# Altium integrated library Pedals SMD.IntLib: 124 symbols (part 5 of 7)
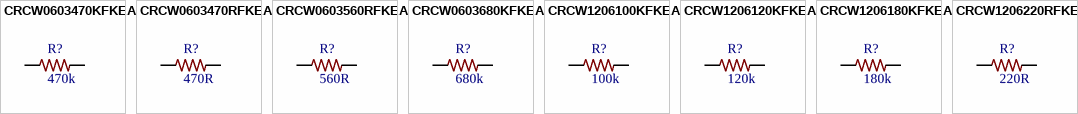
[diagram p15: symbols CRCW0603470KFKEA to CRCW1206220RFKEA]

## CRCW1206120KFKEA
designator R?, comment 120k
RES SMD 120K OHM 1% 1/4W 1206; Manufacturer: Vishay; Manufacturer Part Number: CRCW1206120KFKEA; Resistance: 120kR; Power Rating: 250mW; Temperature Coefficient: 100ppm/°C; Voltage Rating: 200V; Supplier 1: Farnell; Supplier Part Number 1: 2139596; Stock: 30156; Pricing: 10=0.0415, 100=0.0276, 500=0.0231, 1000=0.0126, 2500=0.0116 (EUR); RoHS: Yes; Case/Package: 1206; Weight: 0.000353oz; Contact Plating: Tin; Case Code (Imperial): 1206; Case Code (Metric): 3216; Min Operating Temperature: -55°C; Max Operating Temperature: 155°C; Tolerance: 1%; Composition: Thick Film; Packaging: Tape and Reel; Military Standard: Not; Package Quantity: 10; Number of Terminations: 2; Termination: SMD/SMT; Max Power Dissipation: 250mW; Voltage Rating (DC): 200V; Features: Automotive AEC-Q200; Length: 3.2mm; Height: 0.55mm; Depth: 1.6mm; Width: 1.6mm; Radiation Hardening: No; Lead Free: Lead Free; REACH SVHC: Unknown; ComponentLink1URL: https://datasheet.ciiva.com/11808/0900766b80d98b5e-11808652.pdf?src-supplier=RSComponents; ComponentLink1Description: https://datasheet.ciiva.com/11808/0900766b80d98b5e-11808652.pdf?src-supplier=RSComponents; ComponentLink2URL: https://datasheet.ciiva.com/7714/1697337-7714312.pdf?src-supplier=Element14; ComponentLink2Description: https://datasheet.ciiva.com/7714/1697337-7714312.pdf?src-supplier=Element14; ComponentLink3URL: https://datasheet.ciiva.com/7714/1697337-7714313.pdf?src-supplier=Element14; ComponentLink3Description: https://datasheet.ciiva.com/7714/1697337-7714313.pdf?src-supplier=Element14; ComponentLink4URL: https://datasheet.ciiva.com/22708/1697337-22708105.pdf?src-supplier=Element14; ComponentLink4Description: https://datasheet.ciiva.com/22708/1697337-22708105.pdf?src-supplier=Element14; ComponentLink5URL: https://datasheet.ciiva.com/22675/1847332-22675915.pdf?src-supplier=Element14; ComponentLink5Description: https://datasheet.ciiva.com/22675/1847332-22675915.pdf?src-supplier=Element14; ComponentLink6URL: https://datasheet.ciiva.com/2469/dcrcwe3-2469512.pdf?src-supplier=Digi-Key; ComponentLink6Description: https://datasheet.ciiva.com/2469/dcrcwe3-2469512.pdf?src-supplier=Digi-Key; ComponentLink7URL: https://datasheet.ciiva.com/2469/dcrcwe3-2469510.pdf?src-supplier=Digi-Key; ComponentLink7Description: https://datasheet.ciiva.com/2469/dcrcwe3-2469510.pdf?src-supplier=Digi-Key; ComponentLink8URL: https://datasheet.ciiva.com/2469/dcrcwe3-2469511.pdf?src-supplier=Digi-Key; ComponentLink8Description: https://datasheet.ciiva.com/2469/dcrcwe3-2469511.pdf?src-supplier=Digi-Key; ComponentLink9URL: https://datasheet.ciiva.com/26316/fld-crcw-e3-data-en-26316475.pdf?src-supplier=Distrelec; ComponentLink9Description: https://datasheet.ciiva.com/26316/fld-crcw-e3-data-en-26316475.pdf?src-supplier=Distrelec; ComponentLink10URL: https://datasheet.ciiva.com/7800/125364-7800558.pdf?src-supplier=Element14; ComponentLink10Description: https://datasheet.ciiva.com/7800/125364-7800558.pdf?src-supplier=Element14; Price: 0.028
footprint CHIP_R_1206 (Chip Resistor 2-Leads, Body 3.20x1.60mm, IPC Medium Density)
pins: 1, 2

## CRCW1206180KFKEA
designator R?, comment 180k
RES SMD 180K OHM 1% 1/4W 1206; Manufacturer: Vishay; Manufacturer Part Number: CRCW1206180KFKEA; Resistance: 180kR; Temperature Coefficient: 100ppm/°C; Power Rating: 250mW; Voltage Rating: 200V; Supplier 1: Farnell; Supplier Part Number 1: 2139611; Stock: 15809; Pricing: 10=0.0415, 100=0.0276, 500=0.0231, 1000=0.0135, 2500=0.0116 (EUR); RoHS: Yes; Mount: Surface Mount; Case/Package: 1206; Number of Pins: 2; Weight: 0.000353oz; Contact Plating: Tin; Case Code (Imperial): 1206; Case Code (Metric): 3216; Min Operating Temperature: -55°C; Max Operating Temperature: 155°C; Composition: Thick Film; Tolerance: 1%; Packaging: Tape and Reel; Package Quantity: 10; Termination: SMD/SMT; Number of Terminations: 2; Military Standard: Not; Max Power Dissipation: 250mW; Voltage Rating (DC): 200V; Working Voltage: 200V; Features: Automotive AEC-Q200; Length: 3.2mm; Height: 0.55mm; Width: 1.6mm; Depth: 1.6mm; Radiation Hardening: No; Lead Free: Lead Free; REACH SVHC: Unknown; ComponentLink1URL: https://datasheet.ciiva.com/11811/0900766b80d98b5e-11811640.pdf?src-supplier=RSComponents; ComponentLink1Description: https://datasheet.ciiva.com/11811/0900766b80d98b5e-11811640.pdf?src-supplier=RSComponents; ComponentLink2URL: https://datasheet.ciiva.com/2515/dcrcwe3-2515718.pdf?src-supplier=Digi-Key; ComponentLink2Description: https://datasheet.ciiva.com/2515/dcrcwe3-2515718.pdf?src-supplier=Digi-Key; ComponentLink3URL: https://datasheet.ciiva.com/2515/dcrcwe3-2515719.pdf?src-supplier=Digi-Key; ComponentLink3Description: https://datasheet.ciiva.com/2515/dcrcwe3-2515719.pdf?src-supplier=Digi-Key; ComponentLink4URL: https://datasheet.ciiva.com/2515/dcrcwe3-2515720.pdf?src-supplier=Digi-Key; ComponentLink4Description: https://datasheet.ciiva.com/2515/dcrcwe3-2515720.pdf?src-supplier=Digi-Key; ComponentLink5URL: https://datasheet.ciiva.com/7714/1697337-7714344.pdf?src-supplier=Element14; ComponentLink5Description: https://datasheet.ciiva.com/7714/1697337-7714344.pdf?src-supplier=Element14; ComponentLink6URL: https://datasheet.ciiva.com/26316/fld-crcw-e3-data-en-26316477.pdf?src-supplier=Distrelec; ComponentLink6Description: https://datasheet.ciiva.com/26316/fld-crcw-e3-data-en-26316477.pdf?src-supplier=Distrelec; ComponentLink7URL: https://datasheet.ciiva.com/8964/dcrcwe3-8964238.pdf?src-supplier=Avnet; ComponentLink7Description: https://datasheet.ciiva.com/8964/dcrcwe3-8964238.pdf?src-supplier=Avnet; ComponentLink8URL: https://datasheet.ciiva.com/7714/1697337-7714345.pdf?src-supplier=Element14; ComponentLink8Description: https://datasheet.ciiva.com/7714/1697337-7714345.pdf?src-supplier=Element14; ComponentLink9URL: https://datasheet.ciiva.com/22708/1697337-22708109.pdf?src-supplier=Element14; ComponentLink9Description: https://datasheet.ciiva.com/22708/1697337-22708109.pdf?src-supplier=Element14; Price: 0.0283
footprint CHIP_R_1206 (Chip Resistor 2-Leads, Body 3.20x1.60mm, IPC Medium Density)
pins: 1, 2

## CRCW1206220RFKEA
designator R?, comment 220R
RES SMD 220 OHM 1% 1/4W 1206; Manufacturer: Vishay; Manufacturer Part Number: CRCW1206220RFKEA; Temperature Coefficient: 100ppm/°C; Power Rating: 250mW; Voltage Rating: 200V; Supplier 1: Farnell; Supplier Part Number 1: 2139380; Stock: 47111; Pricing: 10=0.0415, 100=0.0276, 500=0.0231, 1000=0.0135, 2500=0.0116 (EUR); RoHS: Yes; Mount: Surface Mount; Case/Package: 1206; Weight: 0.000353oz; Contact Plating: Tin; Case Code (Imperial): 1206; Case Code (Metric): 3216; Min Operating Temperature: -55°C; Max Operating Temperature: 155°C; Tolerance: 1%; Resistance: 220R; Composition: Thick Film; Packaging: Tape and Reel; Package Quantity: 10; Number of Terminations: 2; Termination: SMD/SMT; Military Standard: Not; Max Power Dissipation: 250mW; Voltage Rating (DC): 200V; Features: Automotive AEC-Q200; Length: 3.2mm; Height: 0.55mm; Width: 1.6mm; Depth: 1.6mm; Radiation Hardening: No; REACH SVHC: Unknown; Lead Free: Lead Free; ComponentLink1URL: https://datasheet.ciiva.com/5550/dcrcwe3-109170-5550679.pdf?src-supplier=Mouser; ComponentLink1Description: https://datasheet.ciiva.com/5550/dcrcwe3-109170-5550679.pdf?src-supplier=Mouser; ComponentLink2URL: https://datasheet.ciiva.com/17166/dcrcwe3-17166378.pdf?src-supplier=Avnet+Europe; ComponentLink2Description: https://datasheet.ciiva.com/17166/dcrcwe3-17166378.pdf?src-supplier=Avnet+Europe; ComponentLink3URL: https://datasheet.ciiva.com/2515/dcrcwe3-2515580.pdf?src-supplier=Digi-Key; ComponentLink3Description: https://datasheet.ciiva.com/2515/dcrcwe3-2515580.pdf?src-supplier=Digi-Key; ComponentLink4URL: https://datasheet.ciiva.com/2515/dcrcwe3-2515581.pdf?src-supplier=Digi-Key; ComponentLink4Description: https://datasheet.ciiva.com/2515/dcrcwe3-2515581.pdf?src-supplier=Digi-Key; ComponentLink5URL: https://datasheet.ciiva.com/2515/dcrcwe3-2515582.pdf?src-supplier=Digi-Key; ComponentLink5Description: https://datasheet.ciiva.com/2515/dcrcwe3-2515582.pdf?src-supplier=Digi-Key; ComponentLink6URL: https://datasheet.ciiva.com/8957/dcrcwe3-8957438.pdf?src-supplier=Avnet; ComponentLink6Description: https://datasheet.ciiva.com/8957/dcrcwe3-8957438.pdf?src-supplier=Avnet; ComponentLink7URL: https://datasheet.ciiva.com/22700/1697337-22700367.pdf?src-supplier=Element14; ComponentLink7Description: https://datasheet.ciiva.com/22700/1697337-22700367.pdf?src-supplier=Element14; ComponentLink8URL: https://datasheet.ciiva.com/26317/fld-crcw-e3-data-en-26317129.pdf?src-supplier=Distrelec; ComponentLink8Description: https://datasheet.ciiva.com/26317/fld-crcw-e3-data-en-26317129.pdf?src-supplier=Distrelec; ComponentLink9URL: https://datasheet.ciiva.com/7800/dcrcwe3-7800651.pdf?src-supplier=Element14; ComponentLink9Description: https://datasheet.ciiva.com/7800/dcrcwe3-7800651.pdf?src-supplier=Element14; ComponentLink10URL: https://datasheet.ciiva.com/22675/1912744-22675103.pdf?src-supplier=Element14; ComponentLink10Description: https://datasheet.ciiva.com/22675/1912744-22675103.pdf?src-supplier=Element14; Price: 0.028
footprint CHIP_R_1206 (Chip Resistor 2-Leads, Body 3.20x1.60mm, IPC Medium Density)
pins: 1, 2


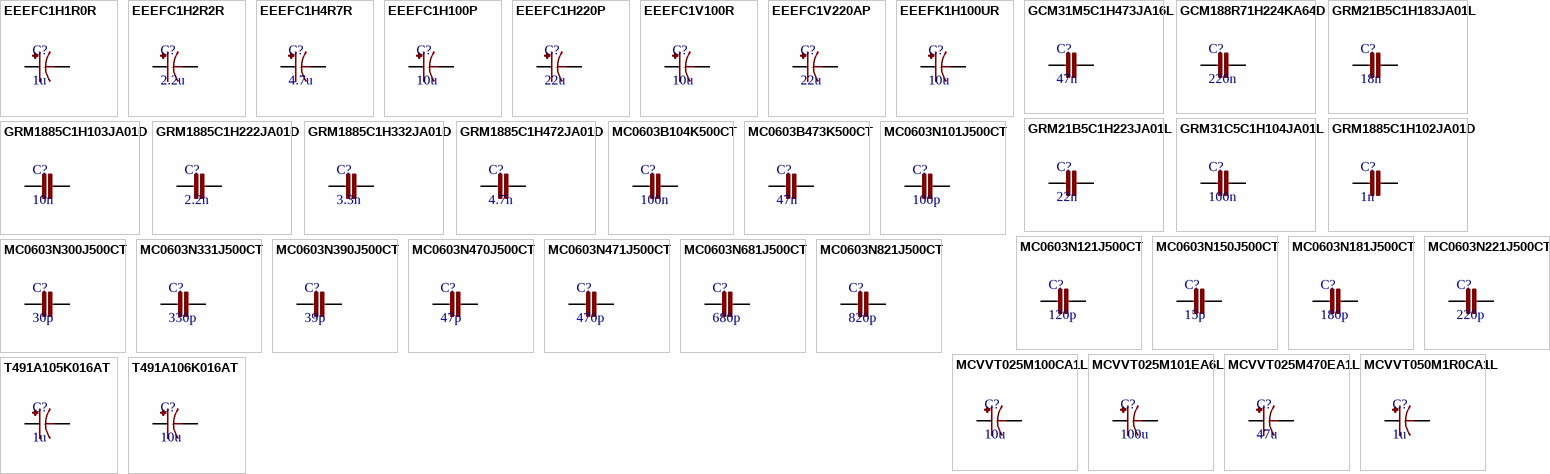
[diagram p6: symbols EEEFC1H1R0R to T491A106K016AT]

## EEEFC1H1R0R
designator C?, comment 1u
CAP ALUM 1UF 50V LESR SMD; Manufacturer: Panasonic; Manufacturer Part Number: EEEFC1H1R0R; Dielectric Material: Aluminium; Tolerance: 20%; Ripple Current: 30mA; ESR (Equivalent Series Resistance): 5R; Life (Hours): 1000Hour; Leakage Current: 3uA; Lead Length: 1.8mm; Supplier 1: Farnell; Supplier Part Number 1: 9694528; Stock 1: 3801; Pricing 1: 5 = 0.29200, 50 = 0.15100, 250 = 0.12600, 500 = 0.09460, 1000 = 0.07990 (EUR); RoHS: Yes; Mount: Surface Mount; Case/Package: Radial; Number of Pins: 2; Material: Aluminium; Contact Plating: Tin; Min Operating Temperature: -40°C; Max Operating Temperature: 105°C; Capacitance: 1uF; Voltage Rating: 50V; Packaging: Tape and Reel; Voltage Rating (DC): 50V; Package Quantity: 2000; Termination: SMD/SMT; Ripple Current (AC): 30mA; Impedance: 5R; Voltage: 50V; Diameter: 4mm; Length: 5.5mm; Height: 5.4mm; Height - Seated (Max): 0.213inch; Width: 4.3mm; Lead Pitch: 1mm; Radiation Hardening: No; REACH SVHC: No SVHC; Lead Free: Lead Free; ComponentLink1URL: https://datasheet.ciiva.com/11779/0900766b806bc525-11779769.pdf?src-supplier=RSComponents; ComponentLink1Description: https://datasheet.ciiva.com/11779/0900766b806bc525-11779769.pdf?src-supplier=RSComponents; ComponentLink2URL: https://datasheet.ciiva.com/29313/443524-da-01-en-smd-elko-vfc-b-1-0-uf-50v-29313787.pdf?src-supplier=Conrad; ComponentLink2Description: https://datasheet.ciiva.com/29313/443524-da-01-en-smd-elko-vfc-b-1-0-uf-50v-29313787.pdf?src-supplier=Conrad; ComponentLink3URL: https://datasheet.ciiva.com/10331/aba0000ce5-10331045.pdf?src-supplier=Avnet; ComponentLink3Description: https://datasheet.ciiva.com/10331/aba0000ce5-10331045.pdf?src-supplier=Avnet; ComponentLink4URL: https://datasheet.ciiva.com/43485/31718-43485413.pdf?src-supplier=Farnell; ComponentLink4Description: https://datasheet.ciiva.com/43485/31718-43485413.pdf?src-supplier=Farnell; ComponentLink5URL: https://datasheet.ciiva.com/17353/aba0000ce5-17353382.pdf?src-supplier=Avnet+Europe; ComponentLink5Description: https://datasheet.ciiva.com/17353/aba0000ce5-17353382.pdf?src-supplier=Avnet+Europe; ComponentLink6URL: https://datasheet.ciiva.com/24024/aba0000ce5-68492-24024840.pdf?src-supplier=Mouser; ComponentLink6Description: https://datasheet.ciiva.com/24024/aba0000ce5-68492-24024840.pdf?src-supplier=Mouser; ComponentLink7URL: https://datasheet.ciiva.com/48542/eeefc-series-eng-tds-48542747.pdf?src-supplier=Distrelec; ComponentLink7Description: https://datasheet.ciiva.com/48542/eeefc-series-eng-tds-48542747.pdf?src-supplier=Distrelec; ComponentLink8URL: https://datasheet.ciiva.com/30181/aba0000ce5-30181516.pdf?src-supplier=Onlinecomponents.com; ComponentLink8Description: https://datasheet.ciiva.com/30181/aba0000ce5-30181516.pdf?src-supplier=Onlinecomponents.com; ComponentLink9URL: https://datasheet.ciiva.com/14596/70068018-14596941.pdf?src-supplier=Allied+Electronics; ComponentLink9Description: https://datasheet.ciiva.com/14596/70068018-14596941.pdf?src-supplier=Allied+Electronics; ComponentLink10URL: https://datasheet.ciiva.com/46388/31718-46388238.pdf?src-supplier=Element14; ComponentLink10Description: https://datasheet.ciiva.com/46388/31718-46388238.pdf?src-supplier=Element14; ComponentLink11URL: https://datasheet.ciiva.com/14606/70256381-14606527.pdf?src-supplier=Allied+Electronics; ComponentLink11Description: https://datasheet.ciiva.com/14606/70256381-14606527.pdf?src-supplier=Allied+Electronics; Price: 0.151
footprint CAPAE_B (Aluminum Electrolytic Capacitor, Body 4.30x4.30x5.40mm, IPC Low Density)
pins: +, -

## EEEFC1H2R2R
designator C?, comment 2.2u
CAP ALUM 2.2UF 20% 50V LESR SMD; Manufacturer: Panasonic; Manufacturer Part Number: EEEFC1H2R2R; Material: Aluminium; Ripple Current: 30mA; Impedance: 5R; Polarity: Polar; Life (Hours): 1000Hour; Leakage Current: 3uA; Lead Length: 1.8mm; Supplier 1: Farnell; Supplier Part Number 1: 9694536; Stock: 4255; Pricing: 5=0.155, 50=0.0772, 250=0.0662, 500=0.0643, 1000=0.0626, 2000=0.061, 10000=0.0594 (EUR); RoHS: Yes; Mount: Surface Mount; Case/Package: Radial; Number of Pins: 2; Contact Plating: Tin; Dielectric Material: Aluminium; Min Operating Temperature: -40°C; Max Operating Temperature: 105°C; Capacitance: 2.2uF; Tolerance: 20%; Packaging: Tape and Reel; Voltage Rating: 50V; Package Quantity: 1; Voltage Rating (DC): 50V; ESR (Equivalent Series Resistance): 5R; Ripple Current (AC): 30mA; Termination: SMD/SMT; Voltage: 50V; Diameter: 4mm; Length: 5.5mm; Height: 5.4mm; Height - Seated (Max): 0.213inch; Lead Pitch: 1mm; Width: 4.3mm; Radiation Hardening: No; REACH SVHC: No SVHC; Lead Free: Lead Free; ComponentLink1URL: https://datasheet.ciiva.com/19479/1984136-19479347.pdf?src-supplier=Jameco; ComponentLink1Description: https://datasheet.ciiva.com/19479/1984136-19479347.pdf?src-supplier=Jameco; ComponentLink2URL: https://datasheet.ciiva.com/11779/0900766b806bc525-11779434.pdf?src-supplier=RSComponents; ComponentLink2Description: https://datasheet.ciiva.com/11779/0900766b806bc525-11779434.pdf?src-supplier=RSComponents; ComponentLink3URL: https://datasheet.ciiva.com/29313/443525-da-01-en-smd-elko-vfc-b-2-2-uf-50v-29313785.pdf?src-supplier=Conrad; ComponentLink3Description: https://datasheet.ciiva.com/29313/443525-da-01-en-smd-elko-vfc-b-2-2-uf-50v-29313785.pdf?src-supplier=Conrad; ComponentLink4URL: https://datasheet.ciiva.com/2985/aba0000ce5-2985317.pdf?src-supplier=Avnet; ComponentLink4Description: https://datasheet.ciiva.com/2985/aba0000ce5-2985317.pdf?src-supplier=Avnet; ComponentLink5URL: https://datasheet.ciiva.com/24023/aba0000ce5-68492-24023637.pdf?src-supplier=Mouser; ComponentLink5Description: https://datasheet.ciiva.com/24023/aba0000ce5-68492-24023637.pdf?src-supplier=Mouser; ComponentLink6URL: https://datasheet.ciiva.com/14592/70068018-14592374.pdf?src-supplier=Allied+Electronics; ComponentLink6Description: https://datasheet.ciiva.com/14592/70068018-14592374.pdf?src-supplier=Allied+Electronics; ComponentLink7URL: https://datasheet.ciiva.com/43485/31718-43485414.pdf?src-supplier=Farnell; ComponentLink7Description: https://datasheet.ciiva.com/43485/31718-43485414.pdf?src-supplier=Farnell; ComponentLink8URL: https://datasheet.ciiva.com/28691/31718-28691033.pdf?src-supplier=Element14; ComponentLink8Description: https://datasheet.ciiva.com/28691/31718-28691033.pdf?src-supplier=Element14; ComponentLink9URL: https://datasheet.ciiva.com/30163/aba0000ce5-30163417.pdf?src-supplier=Onlinecomponents.com; ComponentLink9Description: https://datasheet.ciiva.com/30163/aba0000ce5-30163417.pdf?src-supplier=Onlinecomponents.com; ComponentLink10URL: https://datasheet.ciiva.com/17536/aba0000ce5-17536682.pdf?src-supplier=Avnet+Europe; ComponentLink10Description: https://datasheet.ciiva.com/17536/aba0000ce5-17536682.pdf?src-supplier=Avnet+Europe; ComponentLink11URL: https://datasheet.ciiva.com/48542/eeefc-series-eng-tds-48542746.pdf?src-supplier=Distrelec; ComponentLink11Description: https://datasheet.ciiva.com/48542/eeefc-series-eng-tds-48542746.pdf?src-supplier=Distrelec; ComponentLink12URL: https://datasheet.ciiva.com/14601/70256381-14601035.pdf?src-supplier=Allied+Electronics; ComponentLink12Description: https://datasheet.ciiva.com/14601/70256381-14601035.pdf?src-supplier=Allied+Electronics; ComponentLink13URL: https://datasheet.ciiva.com/46387/31718-46387979.pdf?src-supplier=Element14; ComponentLink13Description: https://datasheet.ciiva.com/46387/31718-46387979.pdf?src-supplier=Element14; ComponentLink14URL: https://datasheet.ciiva.com/46376/31718-46376381.pdf?src-supplier=Element14; ComponentLink14Description: https://datasheet.ciiva.com/46376/31718-46376381.pdf?src-supplier=Element14; ComponentLink15URL: https://datasheet.ciiva.com/6059/31718-6059966.pdf?src-supplier=Farnell; ComponentLink15Description: https://datasheet.ciiva.com/6059/31718-6059966.pdf?src-supplier=Farnell; ComponentLink16URL: https://datasheet.ciiva.com/14602/70256381-14602926.pdf?src-supplier=Allied+Electronics; ComponentLink16Description: https://datasheet.ciiva.com/14602/70256381-14602926.pdf?src-supplier=Allied+Electronics; Price: 0.0762
footprint CAPAE_B (Aluminum Electrolytic Capacitor, Body 4.30x4.30x5.40mm, IPC Low Density)
pins: +, -

## EEEFC1H4R7R
designator C?, comment 4.7u
CAP ALUM 4.7UF 50V LESR SMD; Manufacturer: Panasonic; Manufacturer Part Number: EEEFC1H4R7R; Dielectric Material: Aluminium; Tolerance: 20%; Ripple Current: 50mA; Impedance: 3R; Life (Hours): 1000Hour; Leakage Current: 3uA; Lead Length: 2.2mm; Supplier 1: Farnell; Supplier Part Number 1: 9694552; Stock 1: 1971; Pricing 1: 1 = 0.26900, 50 = 0.18200, 100 = 0.14200, 250 = 0.13200, 500 = 0.09890 (EUR); RoHS: Yes; Mount: Surface Mount; Case/Package: Radial; Number of Pins: 2; Contact Plating: Tin; Min Operating Temperature: -40°C; Max Operating Temperature: 105°C; Capacitance: 4.7uF; Voltage Rating: 50V; Packaging: Tape and Reel; Package Quantity: 1; Ripple Current (AC): 50mA; Voltage Rating (DC): 50V; ESR (Equivalent Series Resistance): 3R; Termination: SMD/SMT; Voltage: 50V; Diameter: 5mm; Length: 5.5mm; Height: 5.4mm; Height - Seated (Max): 0.213inch; Lead Pitch: 1.5mm; Width: 5.3mm; Radiation Hardening: No; REACH SVHC: No SVHC; Lead Free: Lead Free; ComponentLink1URL: https://datasheet.ciiva.com/11778/0900766b806bc525-11778368.pdf?src-supplier=RSComponents; ComponentLink1Description: https://datasheet.ciiva.com/11778/0900766b806bc525-11778368.pdf?src-supplier=RSComponents; ComponentLink2URL: https://datasheet.ciiva.com/6196/31718-6196262.pdf?src-supplier=Farnell; ComponentLink2Description: https://datasheet.ciiva.com/6196/31718-6196262.pdf?src-supplier=Farnell; ComponentLink3URL: https://datasheet.ciiva.com/30150/aba0000ce5-30150534.pdf?src-supplier=Onlinecomponents.com; ComponentLink3Description: https://datasheet.ciiva.com/30150/aba0000ce5-30150534.pdf?src-supplier=Onlinecomponents.com; ComponentLink4URL: https://datasheet.ciiva.com/48542/eeefc-series-eng-tds-48542743.pdf?src-supplier=Distrelec; ComponentLink4Description: https://datasheet.ciiva.com/48542/eeefc-series-eng-tds-48542743.pdf?src-supplier=Distrelec; ComponentLink5URL: https://datasheet.ciiva.com/14595/70256381-14595032.pdf?src-supplier=Allied+Electronics; ComponentLink5Description: https://datasheet.ciiva.com/14595/70256381-14595032.pdf?src-supplier=Allied+Electronics; ComponentLink6URL: https://datasheet.ciiva.com/43485/31718-43485416.pdf?src-supplier=Farnell; ComponentLink6Description: https://datasheet.ciiva.com/43485/31718-43485416.pdf?src-supplier=Farnell; ComponentLink7URL: https://datasheet.ciiva.com/24072/aba0000ce5-68492-24072137.pdf?src-supplier=Mouser; ComponentLink7Description: https://datasheet.ciiva.com/24072/aba0000ce5-68492-24072137.pdf?src-supplier=Mouser; ComponentLink8URL: https://datasheet.ciiva.com/14602/70256381-14602202.pdf?src-supplier=Allied+Electronics; ComponentLink8Description: https://datasheet.ciiva.com/14602/70256381-14602202.pdf?src-supplier=Allied+Electronics; ComponentLink9URL: https://datasheet.ciiva.com/46376/31718-46376378.pdf?src-supplier=Element14; ComponentLink9Description: https://datasheet.ciiva.com/46376/31718-46376378.pdf?src-supplier=Element14; ComponentLink10URL: https://datasheet.ciiva.com/14596/70068018-14596798.pdf?src-supplier=Allied+Electronics; ComponentLink10Description: https://datasheet.ciiva.com/14596/70068018-14596798.pdf?src-supplier=Allied+Electronics; Price: 0.27
footprint CAPAE_C (Aluminum Electrolytic Capacitor, Body 5.30x5.30x5.40mm, IPC Low Density)
pins: +, -

## EEEFC1H100P
designator C?, comment 10u
CAP ALUM 10UF 20% 50V LESR SMD; Manufacturer: Panasonic; Manufacturer Part Number: EEEFC1H100P; Material: Aluminium; Ripple Current: 70mA; Impedance: 2R; Polarity: Polar; Life (Hours): 1000Hour; Leakage Current: 3uA; Lead Length: 2.6mm; Supplier 1: Farnell; Supplier Part Number 1: 9694560; Stock: 7178; Pricing: 1=0.369, 50=0.219, 100=0.16, 250=0.156, 500=0.118 (EUR); RoHS: Yes; Mount: Surface Mount; Case/Package: Radial; Number of Pins: 2; Dielectric Material: Aluminium; Min Operating Temperature: -40°C; Max Operating Temperature: 105°C; Capacitance: 10uF; Tolerance: 20%; Voltage Rating: 50V; Packaging: Tape and Reel; Package Quantity: 1000; Ripple Current (AC): 70mA; Voltage Rating (DC): 50V; ESR (Equivalent Series Resistance): 2R; Termination: SMD/SMT; Voltage: 50V; Diameter: 6.3mm; Length: 5.5mm; Height: 5.4mm; Lead Pitch: 1.8mm; Height - Seated (Max): 0.213inch; Width: 6.6mm; Radiation Hardening: No; REACH SVHC: No SVHC; Lead Free: Lead Free; ComponentLink1URL: https://datasheet.ciiva.com/11777/0900766b80e4a876-11777374.pdf?src-supplier=RSComponents; ComponentLink1Description: https://datasheet.ciiva.com/11777/0900766b80e4a876-11777374.pdf?src-supplier=RSComponents; ComponentLink2URL: https://datasheet.ciiva.com/25613/0900766b806bc525-25613719.pdf?src-supplier=RSComponents; ComponentLink2Description: https://datasheet.ciiva.com/25613/0900766b806bc525-25613719.pdf?src-supplier=RSComponents; ComponentLink3URL: https://datasheet.ciiva.com/43485/31718-43485417.pdf?src-supplier=Farnell; ComponentLink3Description: https://datasheet.ciiva.com/43485/31718-43485417.pdf?src-supplier=Farnell; ComponentLink4URL: https://datasheet.ciiva.com/43463/31718-43463467.pdf?src-supplier=Farnell; ComponentLink4Description: https://datasheet.ciiva.com/43463/31718-43463467.pdf?src-supplier=Farnell; ComponentLink5URL: https://datasheet.ciiva.com/46376/31718-46376383.pdf?src-supplier=Element14; ComponentLink5Description: https://datasheet.ciiva.com/46376/31718-46376383.pdf?src-supplier=Element14; ComponentLink6URL: https://datasheet.ciiva.com/14603/70256381-14603525.pdf?src-supplier=Allied+Electronics; ComponentLink6Description: https://datasheet.ciiva.com/14603/70256381-14603525.pdf?src-supplier=Allied+Electronics; ComponentLink7URL: https://datasheet.ciiva.com/16394/aba0000ce5-16394405.pdf?src-supplier=Future+Electronics; ComponentLink7Description: https://datasheet.ciiva.com/16394/aba0000ce5-16394405.pdf?src-supplier=Future+Electronics; ComponentLink8URL: https://datasheet.ciiva.com/48542/eeefc-series-eng-tds-48542742.pdf?src-supplier=Distrelec; ComponentLink8Description: https://datasheet.ciiva.com/48542/eeefc-series-eng-tds-48542742.pdf?src-supplier=Distrelec; ComponentLink9URL: https://datasheet.ciiva.com/24069/aba0000ce5-68492-24069287.pdf?src-supplier=Mouser; ComponentLink9Description: https://datasheet.ciiva.com/24069/aba0000ce5-68492-24069287.pdf?src-supplier=Mouser; ComponentLink10URL: https://datasheet.ciiva.com/14588/70068018-14588537.pdf?src-supplier=Allied+Electronics; ComponentLink10Description: https://datasheet.ciiva.com/14588/70068018-14588537.pdf?src-supplier=Allied+Electronics; ComponentLink11URL: https://datasheet.ciiva.com/6121/31718-6121404.pdf?src-supplier=Farnell; ComponentLink11Description: https://datasheet.ciiva.com/6121/31718-6121404.pdf?src-supplier=Farnell; ComponentLink12URL: https://datasheet.ciiva.com/46388/31718-46388044.pdf?src-supplier=Element14; ComponentLink12Description: https://datasheet.ciiva.com/46388/31718-46388044.pdf?src-supplier=Element14; ComponentLink13URL: https://datasheet.ciiva.com/30236/aba0000ce5-30236333.pdf?src-supplier=Onlinecomponents.com; ComponentLink13Description: https://datasheet.ciiva.com/30236/aba0000ce5-30236333.pdf?src-supplier=Onlinecomponents.com; ComponentLink14URL: https://datasheet.ciiva.com/46388/31718-46388045.pdf?src-supplier=Element14; ComponentLink14Description: https://datasheet.ciiva.com/46388/31718-46388045.pdf?src-supplier=Element14; ComponentLink15URL: https://datasheet.ciiva.com/16539/aba0000ce5-16539967.pdf?src-supplier=Avnet+Asia; ComponentLink15Description: https://datasheet.ciiva.com/16539/aba0000ce5-16539967.pdf?src-supplier=Avnet+Asia; Price: 0.174
footprint CAPAE_C (Aluminum Electrolytic Capacitor, Body 5.30x5.30x5.40mm, IPC Low Density)
pins: +, -

## EEEFC1H220P
designator C?, comment 22u
CAP ALUM 22UF 20% 50V LESR SMD; Manufacturer: Panasonic; Manufacturer Part Number: EEEFC1H220P; Material: Aluminium; Ripple Current: 120mA; Life (Hours): 1000Hour; ESR (Equivalent Series Resistance): 700mR; Polarity: Polar; Leakage Current: 3uA; Lead Length: 3.4mm; Supplier 1: Farnell; Supplier Part Number 1: 9694579; Stock: 3729; Pricing: 1=0.557, 50=0.358, 100=0.261, 250=0.255, 500=0.193 (EUR); RoHS: Yes; Mount: Surface Mount; Case/Package: Radial; Number of Pins: 2; Contact Plating: Tin; Dielectric Material: Aluminium; Min Operating Temperature: -40°C; Max Operating Temperature: 105°C; Capacitance: 22uF; Tolerance: 20%; Packaging: Tape and Reel; Voltage Rating: 50V; Ripple Current (AC): 120mA; Voltage Rating (DC): 50V; Impedance: 700mR; Package Quantity: 1000; Termination: SMD/SMT; Voltage: 50V; Diameter: 8mm; Length: 6.5mm; Height: 6.2mm; Lead Pitch: 2.2mm; Height - Seated (Max): 0.244inch; Width: 8.3mm; Radiation Hardening: No; REACH SVHC: No SVHC; Lead Free: Lead Free; ComponentLink1URL: https://datasheet.ciiva.com/11777/0900766b80e4a876-11777372.pdf?src-supplier=RSComponents; ComponentLink1Description: https://datasheet.ciiva.com/11777/0900766b80e4a876-11777372.pdf?src-supplier=RSComponents; ComponentLink2URL: https://datasheet.ciiva.com/25613/0900766b806bc525-25613993.pdf?src-supplier=RSComponents; ComponentLink2Description: https://datasheet.ciiva.com/25613/0900766b806bc525-25613993.pdf?src-supplier=RSComponents; ComponentLink3URL: https://datasheet.ciiva.com/29313/443527-da-01-en-smd-elko-vfc-e-22-uf-50v-29313789.pdf?src-supplier=Conrad; ComponentLink3Description: https://datasheet.ciiva.com/29313/443527-da-01-en-smd-elko-vfc-e-22-uf-50v-29313789.pdf?src-supplier=Conrad; ComponentLink4URL: https://datasheet.ciiva.com/14608/70256381-14608287.pdf?src-supplier=Allied+Electronics; ComponentLink4Description: https://datasheet.ciiva.com/14608/70256381-14608287.pdf?src-supplier=Allied+Electronics; ComponentLink5URL: https://datasheet.ciiva.com/46388/31718-46388046.pdf?src-supplier=Element14; ComponentLink5Description: https://datasheet.ciiva.com/46388/31718-46388046.pdf?src-supplier=Element14; ComponentLink6URL: https://datasheet.ciiva.com/46376/31718-46376382.pdf?src-supplier=Element14; ComponentLink6Description: https://datasheet.ciiva.com/46376/31718-46376382.pdf?src-supplier=Element14; ComponentLink7URL: https://datasheet.ciiva.com/43463/31718-43463468.pdf?src-supplier=Farnell; ComponentLink7Description: https://datasheet.ciiva.com/43463/31718-43463468.pdf?src-supplier=Farnell; ComponentLink8URL: https://datasheet.ciiva.com/15166/getdatasheetpartid-169279-15166156.pdf?src-supplier=Verical; ComponentLink8Description: https://datasheet.ciiva.com/15166/getdatasheetpartid-169279-15166156.pdf?src-supplier=Verical; ComponentLink9URL: https://datasheet.ciiva.com/2985/aba0000ce5-2985315.pdf?src-supplier=Avnet; ComponentLink9Description: https://datasheet.ciiva.com/2985/aba0000ce5-2985315.pdf?src-supplier=Avnet; ComponentLink10URL: https://datasheet.ciiva.com/6085/31718-6085131.pdf?src-supplier=Farnell; ComponentLink10Description: https://datasheet.ciiva.com/6085/31718-6085131.pdf?src-supplier=Farnell; ComponentLink11URL: https://datasheet.ciiva.com/43485/31718-43485418.pdf?src-supplier=Farnell; ComponentLink11Description: https://datasheet.ciiva.com/43485/31718-43485418.pdf?src-supplier=Farnell; ComponentLink12URL: https://datasheet.ciiva.com/14604/70256381-14604857.pdf?src-supplier=Allied+Electronics; ComponentLink12Description: https://datasheet.ciiva.com/14604/70256381-14604857.pdf?src-supplier=Allied+Electronics; ComponentLink13URL: https://datasheet.ciiva.com/30171/aba0000ce5-30171303.pdf?src-supplier=Onlinecomponents.com; ComponentLink13Description: https://datasheet.ciiva.com/30171/aba0000ce5-30171303.pdf?src-supplier=Onlinecomponents.com; ComponentLink14URL: https://datasheet.ciiva.com/18443/70068018-18443669.pdf?src-supplier=Allied+Electronics; ComponentLink14Description: https://datasheet.ciiva.com/18443/70068018-18443669.pdf?src-supplier=Allied+Electronics; ComponentLink15URL: https://datasheet.ciiva.com/2985/aba0000ce5-2985316.pdf?src-supplier=Avnet; ComponentLink15Description: https://datasheet.ciiva.com/2985/aba0000ce5-2985316.pdf?src-supplier=Avnet; ComponentLink16URL: https://datasheet.ciiva.com/46388/31718-46388047.pdf?src-supplier=Element14; ComponentLink16Description: https://datasheet.ciiva.com/46388/31718-46388047.pdf?src-supplier=Element14; ComponentLink17URL: https://datasheet.ciiva.com/28691/31718-28691019.pdf?src-supplier=Element14; ComponentLink17Description: https://datasheet.ciiva.com/28691/31718-28691019.pdf?src-supplier=Element14
footprint CAPAE_E (Aluminum Electrolytic Capacitor, Body 8.30x8.30x6.50mm, IPC Low Density)
pins: +, -

## EEEFC1V100R
designator C?, comment 10u
CAP ALUM 10UF 20% 35V LESR SMD; Manufacturer: Panasonic; Manufacturer Part Number: EEEFC1V100R; Material: Aluminium; Ripple Current: 95mA; Ripple Current (AC): 80mA; ESR (Equivalent Series Resistance): 1.8R; Life (Hours): 1000Hour; Leakage Current: 3uA; Lead Length: 2.2mm; Dissipation Factor: 0.12%; Supplier 1: Farnell; Supplier Part Number 1: 9694471; Stock: 9423; Pricing: 1=0.262, 50=0.174, 100=0.137, 250=0.126, 500=0.0949 (EUR); RoHS: Yes; Mount: Surface Mount; Case/Package: Radial; Number of Pins: 2; Contact Plating: Tin; Dielectric Material: Aluminium; Min Operating Temperature: -40°C; Max Operating Temperature: 105°C; Capacitance: 10uF; Tolerance: 20%; Voltage Rating: 35V; Packaging: Tape and Reel; Voltage Rating (DC): 35V; Package Quantity: 1; Impedance: 1.8R; Termination: SMD/SMT; Voltage: 35V; Diameter: 5mm; Length: 5.5mm; Height: 5.4mm; Height - Seated (Max): 0.213inch; Lead Pitch: 1.5mm; Width: 5.3mm; Radiation Hardening: No; REACH SVHC: No SVHC; Lead Free: Lead Free; ComponentLink1URL: https://datasheet.ciiva.com/11778/0900766b806bc525-11778322.pdf?src-supplier=RSComponents; ComponentLink1Description: https://datasheet.ciiva.com/11778/0900766b806bc525-11778322.pdf?src-supplier=RSComponents; ComponentLink2URL: https://datasheet.ciiva.com/24024/aba0000ce5-68492-24024071.pdf?src-supplier=Mouser; ComponentLink2Description: https://datasheet.ciiva.com/24024/aba0000ce5-68492-24024071.pdf?src-supplier=Mouser; ComponentLink3URL: https://datasheet.ciiva.com/6121/31718-6121401.pdf?src-supplier=Farnell; ComponentLink3Description: https://datasheet.ciiva.com/6121/31718-6121401.pdf?src-supplier=Farnell; ComponentLink4URL: https://datasheet.ciiva.com/14589/70068018-14589817.pdf?src-supplier=Allied+Electronics; ComponentLink4Description: https://datasheet.ciiva.com/14589/70068018-14589817.pdf?src-supplier=Allied+Electronics; ComponentLink5URL: https://datasheet.ciiva.com/28692/31718-28692604.pdf?src-supplier=Element14; ComponentLink5Description: https://datasheet.ciiva.com/28692/31718-28692604.pdf?src-supplier=Element14; ComponentLink6URL: https://datasheet.ciiva.com/15166/getdatasheetpartid-178542-15166253.pdf?src-supplier=Verical; ComponentLink6Description: https://datasheet.ciiva.com/15166/getdatasheetpartid-178542-15166253.pdf?src-supplier=Verical; ComponentLink7URL: https://datasheet.ciiva.com/48542/eeefc-series-eng-tds-48542853.pdf?src-supplier=Distrelec; ComponentLink7Description: https://datasheet.ciiva.com/48542/eeefc-series-eng-tds-48542853.pdf?src-supplier=Distrelec; ComponentLink8URL: https://datasheet.ciiva.com/46387/31718-46387356.pdf?src-supplier=Element14; ComponentLink8Description: https://datasheet.ciiva.com/46387/31718-46387356.pdf?src-supplier=Element14; ComponentLink9URL: https://datasheet.ciiva.com/16205/aba0000ce5-16205647.pdf?src-supplier=Future+Electronics; ComponentLink9Description: https://datasheet.ciiva.com/16205/aba0000ce5-16205647.pdf?src-supplier=Future+Electronics; ComponentLink10URL: https://datasheet.ciiva.com/11777/0900766b80e4a87c-11777364.pdf?src-supplier=RSComponents; ComponentLink10Description: https://datasheet.ciiva.com/11777/0900766b80e4a87c-11777364.pdf?src-supplier=RSComponents; ComponentLink11URL: https://datasheet.ciiva.com/25613/0900766b80e4a87c-25613779.pdf?src-supplier=RSComponents; ComponentLink11Description: https://datasheet.ciiva.com/25613/0900766b80e4a87c-25613779.pdf?src-supplier=RSComponents; ComponentLink12URL: https://datasheet.ciiva.com/14596/70256378-14596293.pdf?src-supplier=Allied+Electronics; ComponentLink12Description: https://datasheet.ciiva.com/14596/70256378-14596293.pdf?src-supplier=Allied+Electronics; ComponentLink13URL: https://datasheet.ciiva.com/46376/31718-46376453.pdf?src-supplier=Element14; ComponentLink13Description: https://datasheet.ciiva.com/46376/31718-46376453.pdf?src-supplier=Element14; ComponentLink14URL: https://datasheet.ciiva.com/14605/70256378-14605575.pdf?src-supplier=Allied+Electronics; ComponentLink14Description: https://datasheet.ciiva.com/14605/70256378-14605575.pdf?src-supplier=Allied+Electronics; ComponentLink15URL: https://datasheet.ciiva.com/46388/31718-46388425.pdf?src-supplier=Element14; ComponentLink15Description: https://datasheet.ciiva.com/46388/31718-46388425.pdf?src-supplier=Element14; ComponentLink16URL: https://datasheet.ciiva.com/43454/31718-43454682.pdf?src-supplier=Farnell; ComponentLink16Description: https://datasheet.ciiva.com/43454/31718-43454682.pdf?src-supplier=Farnell; ComponentLink17URL: https://datasheet.ciiva.com/46388/31718-46388427.pdf?src-supplier=Element14; ComponentLink17Description: https://datasheet.ciiva.com/46388/31718-46388427.pdf?src-supplier=Element14; ComponentLink18URL: https://datasheet.ciiva.com/2985/aba0000ce118-2985326.pdf?src-supplier=Avnet; ComponentLink18Description: https://datasheet.ciiva.com/2985/aba0000ce118-2985326.pdf?src-supplier=Avnet; ComponentLink19URL: https://datasheet.ciiva.com/2985/aba0000ce118-2985325.pdf?src-supplier=Avnet; ComponentLink19Description: https://datasheet.ciiva.com/2985/aba0000ce118-2985325.pdf?src-supplier=Avnet; ComponentLink20URL: https://datasheet.ciiva.com/6085/31718-6085134.pdf?src-supplier=Farnell; ComponentLink20Description: https://datasheet.ciiva.com/6085/31718-6085134.pdf?src-supplier=Farnell; Price: 0.174
footprint CAPAE_C (Aluminum Electrolytic Capacitor, Body 5.30x5.30x5.40mm, IPC Low Density)
pins: +, -

## EEEFC1V220AP
designator C?, comment 22u
CAP ALUM 22UF 20% 35V LESR SMD; Manufacturer: Panasonic; Manufacturer Part Number: EEEFC1V220AP; Dielectric Material: Aluminium; Ripple Current: 140mA; ESR (Equivalent Series Resistance): 1R; Leakage Current: 3uA; Life (Hours): 1000Hour; Dissipation Factor: 0.12%; Lead Length: 2.6mm; Supplier 1: Farnell; Supplier Part Number 1: 1244374; Stock: 1564; Pricing: 1=0.38, 50=0.224, 100=0.172, 250=0.16, 500=0.138 (EUR); RoHS: Yes; Mount: Surface Mount; Case/Package: Radial; Number of Pins: 2; Min Operating Temperature: -40°C; Max Operating Temperature: 105°C; Tolerance: 20%; Capacitance: 22uF; Packaging: Tape and Reel; Package Quantity: 1; Voltage Rating: 35V; Voltage Rating (DC): 35V; Ripple Current (AC): 140mA; Impedance: 1R; Termination: SMD/SMT; Voltage: 35V; Diameter: 6.3mm; Length: 5.5mm; Height: 5.4mm; Height - Seated (Max): 0.213inch; Width: 6.6mm; Lead Pitch: 1.8mm; Radiation Hardening: No; REACH SVHC: No SVHC; Lead Free: Lead Free; ComponentLink1URL: https://datasheet.ciiva.com/11777/0900766b80e4a87c-11777364.pdf?src-supplier=RSComponents; ComponentLink1Description: https://datasheet.ciiva.com/11777/0900766b80e4a87c-11777364.pdf?src-supplier=RSComponents; ComponentLink2URL: https://datasheet.ciiva.com/25613/0900766b80e4a87c-25613779.pdf?src-supplier=RSComponents; ComponentLink2Description: https://datasheet.ciiva.com/25613/0900766b80e4a87c-25613779.pdf?src-supplier=RSComponents; ComponentLink3URL: https://datasheet.ciiva.com/14596/70256378-14596293.pdf?src-supplier=Allied+Electronics; ComponentLink3Description: https://datasheet.ciiva.com/14596/70256378-14596293.pdf?src-supplier=Allied+Electronics; ComponentLink4URL: https://datasheet.ciiva.com/46376/31718-46376453.pdf?src-supplier=Element14; ComponentLink4Description: https://datasheet.ciiva.com/46376/31718-46376453.pdf?src-supplier=Element14; ComponentLink5URL: https://datasheet.ciiva.com/14605/70256378-14605575.pdf?src-supplier=Allied+Electronics; ComponentLink5Description: https://datasheet.ciiva.com/14605/70256378-14605575.pdf?src-supplier=Allied+Electronics; ComponentLink6URL: https://datasheet.ciiva.com/46388/31718-46388425.pdf?src-supplier=Element14; ComponentLink6Description: https://datasheet.ciiva.com/46388/31718-46388425.pdf?src-supplier=Element14; ComponentLink7URL: https://datasheet.ciiva.com/43454/31718-43454682.pdf?src-supplier=Farnell; ComponentLink7Description: https://datasheet.ciiva.com/43454/31718-43454682.pdf?src-supplier=Farnell; ComponentLink8URL: https://datasheet.ciiva.com/46388/31718-46388427.pdf?src-supplier=Element14; ComponentLink8Description: https://datasheet.ciiva.com/46388/31718-46388427.pdf?src-supplier=Element14; ComponentLink9URL: https://datasheet.ciiva.com/2985/aba0000ce118-2985326.pdf?src-supplier=Avnet; ComponentLink9Description: https://datasheet.ciiva.com/2985/aba0000ce118-2985326.pdf?src-supplier=Avnet; ComponentLink10URL: https://datasheet.ciiva.com/2985/aba0000ce118-2985325.pdf?src-supplier=Avnet; ComponentLink10Description: https://datasheet.ciiva.com/2985/aba0000ce118-2985325.pdf?src-supplier=Avnet; ComponentLink11URL: https://datasheet.ciiva.com/6085/31718-6085134.pdf?src-supplier=Farnell; ComponentLink11Description: https://datasheet.ciiva.com/6085/31718-6085134.pdf?src-supplier=Farnell; Price: 0.227
footprint CAPAE_D (Aluminum Electrolytic Capacitor, Body 6.60x6.60x5.40mm, IPC Low Density)
pins: +, -

## EEEFK1H100UR
designator C?, comment 10u
CAP ALUM 10UF 50V LESR SMD; Manufacturer: Panasonic; Manufacturer Part Number: EEEFK1H100UR; Material: Aluminium; Tolerance: 20%; Ripple Current: 85mA; Impedance: 1.52R; Life (Hours): 2000Hour; Leakage Current: 3uA; Supplier 1: Farnell; Supplier Part Number 1: 9695907; Stock 1: 5731; Pricing 1: 1 = 0.24800, 50 = 0.18600, 100 = 0.14900, 250 = 0.12400, 500 = 0.10700 (EUR); RoHS: Yes; Mount: Surface Mount; Case/Package: Radial; Number of Pins: 2; Contact Plating: Tin; Dielectric Material: Aluminium; Min Operating Temperature: -55°C; Max Operating Temperature: 105°C; Capacitance: 10uF; Voltage Rating: 50V; Packaging: Tape and Reel; Package Quantity: 1000; Voltage Rating (DC): 50V; ESR (Equivalent Series Resistance): 1.52R; Ripple Current (AC): 85mA; Termination: SMD/SMT; Voltage: 50V; Diameter: 5mm; Length: 5.8mm; Height: 5.8mm; Height - Seated (Max): 0.228inch; Width: 6.5mm; Radiation Hardening: No; REACH SVHC: No SVHC; Lead Free: Lead Free; ComponentLink1URL: https://datasheet.ciiva.com/11777/0900766b80e4e8b0-11777247.pdf?src-supplier=RSComponents; ComponentLink1Description: https://datasheet.ciiva.com/11777/0900766b80e4e8b0-11777247.pdf?src-supplier=RSComponents; ComponentLink2URL: https://datasheet.ciiva.com/29313/443489-da-01-en-smd-elko-vfk-c-10-uf-50v-29313597.pdf?src-supplier=Conrad; ComponentLink2Description: https://datasheet.ciiva.com/29313/443489-da-01-en-smd-elko-vfk-c-10-uf-50v-29313597.pdf?src-supplier=Conrad; ComponentLink3URL: https://datasheet.ciiva.com/3773/41677619s9849674n1386-3773845.pdf?src-supplier=Arrow; ComponentLink3Description: https://datasheet.ciiva.com/3773/41677619s9849674n1386-3773845.pdf?src-supplier=Arrow; ComponentLink4URL: https://datasheet.ciiva.com/11680/aba0000ce120-11680671.pdf?src-supplier=Avnet; ComponentLink4Description: https://datasheet.ciiva.com/11680/aba0000ce120-11680671.pdf?src-supplier=Avnet; ComponentLink5URL: https://datasheet.ciiva.com/46385/1676921-46385982.pdf?src-supplier=Element14; ComponentLink5Description: https://datasheet.ciiva.com/46385/1676921-46385982.pdf?src-supplier=Element14; ComponentLink6URL: https://datasheet.ciiva.com/2985/aba0000ce120-2985438.pdf?src-supplier=Avnet; ComponentLink6Description: https://datasheet.ciiva.com/2985/aba0000ce120-2985438.pdf?src-supplier=Avnet; ComponentLink7URL: https://datasheet.ciiva.com/46376/1676921-46376475.pdf?src-supplier=Element14; ComponentLink7Description: https://datasheet.ciiva.com/46376/1676921-46376475.pdf?src-supplier=Element14; ComponentLink8URL: https://datasheet.ciiva.com/14597/70258115-14597707.pdf?src-supplier=Allied+Electronics; ComponentLink8Description: https://datasheet.ciiva.com/14597/70258115-14597707.pdf?src-supplier=Allied+Electronics; ComponentLink9URL: https://datasheet.ciiva.com/48524/fk-eng-tds-48524072.pdf?src-supplier=Distrelec; ComponentLink9Description: https://datasheet.ciiva.com/48524/fk-eng-tds-48524072.pdf?src-supplier=Distrelec; ComponentLink10URL: https://datasheet.ciiva.com/17356/aba0000ce120-17356200.pdf?src-supplier=Avnet+Europe; ComponentLink10Description: https://datasheet.ciiva.com/17356/aba0000ce120-17356200.pdf?src-supplier=Avnet+Europe; ComponentLink11URL: https://datasheet.ciiva.com/16544/aba0000ce120-16544567.pdf?src-supplier=Avnet+Asia; ComponentLink11Description: https://datasheet.ciiva.com/16544/aba0000ce120-16544567.pdf?src-supplier=Avnet+Asia; ComponentLink12URL: https://datasheet.ciiva.com/6121/1676921-6121191.pdf?src-supplier=Farnell; ComponentLink12Description: https://datasheet.ciiva.com/6121/1676921-6121191.pdf?src-supplier=Farnell; ComponentLink13URL: https://datasheet.ciiva.com/43485/1676921-43485510.pdf?src-supplier=Farnell; ComponentLink13Description: https://datasheet.ciiva.com/43485/1676921-43485510.pdf?src-supplier=Farnell; ComponentLink14URL: https://datasheet.ciiva.com/43463/58258-43463526.pdf?src-supplier=Farnell; ComponentLink14Description: https://datasheet.ciiva.com/43463/58258-43463526.pdf?src-supplier=Farnell; ComponentLink15URL: https://datasheet.ciiva.com/14594/70258115-14594166.pdf?src-supplier=Allied+Electronics; ComponentLink15Description: https://datasheet.ciiva.com/14594/70258115-14594166.pdf?src-supplier=Allied+Electronics; ComponentLink16URL: https://datasheet.ciiva.com/24240/aba0000ce120-24240440.pdf?src-supplier=Mouser; ComponentLink16Description: https://datasheet.ciiva.com/24240/aba0000ce120-24240440.pdf?src-supplier=Mouser; ComponentLink17URL: https://datasheet.ciiva.com/46385/58258-46385983.pdf?src-supplier=Element14; ComponentLink17Description: https://datasheet.ciiva.com/46385/58258-46385983.pdf?src-supplier=Element14
footprint CAPAE_C (Aluminum Electrolytic Capacitor, Body 5.30x5.30x5.40mm, IPC Low Density)
pins: +, -

## GCM31M5C1H473JA16L
designator C?, comment 47n
CAP CER 47NF 50V C0G/NP0 1206; Manufacturer: Murata; Manufacturer Part Number: GCM31M5C1H473JA16L; Tolerance: 5%; Dielectric: C0G; Supplier 1: Farnell; Supplier Part Number 1: 2218706; Stock 1: 4840; Pricing 1: 5 = 0.24800, 50 = 0.13700, 250 = 0.11600, 500 = 0.08300, 1500 = 0.07700, 3000 = 0.07360 (EUR); RoHS: Yes; Mount: Surface Mount; Case/Package: 1206; Case Code (Metric): 3216; Case Code (Imperial): 1206; Min Operating Temperature: -55°C; Max Operating Temperature: 125°C; Package Quantity: 1; Capacitance: 47nF; Voltage Rating: 50V; Packaging: Tape and Reel; Voltage Rating (DC): 50V; Termination: SMD/SMT; Length: 3.2mm; Height: 1.15mm; Width: 0.063inch; Thickness: 0.049inch; Depth: 1.6mm; Ratings: AEC-Q200; Radiation Hardening: No; REACH SVHC: No SVHC; ComponentLink1URL: https://datasheet.ciiva.com/136/s0720e-136368.pdf?src-supplier=Digi-Key; ComponentLink1Description: https://datasheet.ciiva.com/136/s0720e-136368.pdf?src-supplier=Digi-Key; ComponentLink2URL: https://datasheet.ciiva.com/11607/product-11607763.pdf?src-supplier=Avnet; ComponentLink2Description: https://datasheet.ciiva.com/11607/product-11607763.pdf?src-supplier=Avnet; ComponentLink3URL: https://datasheet.ciiva.com/18183/getdatasheetpartid-569724-18183753.pdf?src-supplier=Verical; ComponentLink3Description: https://datasheet.ciiva.com/18183/getdatasheetpartid-569724-18183753.pdf?src-supplier=Verical; ComponentLink4URL: https://datasheet.ciiva.com/140/s0717e-140734.pdf?src-supplier=Digi-Key; ComponentLink4Description: https://datasheet.ciiva.com/140/s0717e-140734.pdf?src-supplier=Digi-Key; ComponentLink5URL: https://datasheet.ciiva.com/140/s0717e-140735.pdf?src-supplier=Digi-Key; ComponentLink5Description: https://datasheet.ciiva.com/140/s0717e-140735.pdf?src-supplier=Digi-Key; Price: 0.333
footprint CHIP_1206 (Chip Capacitor, 2-Leads, Body 3.20x1.60mm, IPC Medium Density)
pins: 1, 2

## GCM188R71H224KA64D
designator C?, comment 220n
CAP CER 220n 50V X7R 0603; Manufacturer: Murata; Manufacturer Part Number: GCM188R71H224KA64D; Capacitance: 220nF; Tolerance: 10%; Supplier 1: Farnell; Supplier Part Number 1: 2456085; Stock: 115256; Pricing: 10=0.218, 100=0.0926, 500=0.0681, 1000=0.0597, 2000=0.048 (EUR); RoHS: Yes; Mount: Surface Mount; Case/Package: 0603; Case Code (Imperial): 0603; Case Code (Metric): 1608; Min Operating Temperature: -55°C; Max Operating Temperature: 125°C; Dielectric: X7R; Packaging: Tape and Reel; Voltage Rating: 50V; Package Quantity: 10; Termination: SMD/SMT; Voltage: 50V; Voltage Rating (DC): 50V; Length: 1.6mm; Height: 0.8mm; Width: 0.031inch; Thickness: 0.035inch; Depth: 0.8mm; Ratings: AEC-Q200; Radiation Hardening: No; REACH SVHC: No SVHC; Lead Free: Lead Free; ComponentLink1URL: https://datasheet.ciiva.com/26921/getdatasheetpartid-387764-26921786.pdf?src-supplier=Verical; ComponentLink1Description: https://datasheet.ciiva.com/26921/getdatasheetpartid-387764-26921786.pdf?src-supplier=Verical; ComponentLink2URL: https://datasheet.ciiva.com/136/s0717e-136042.pdf?src-supplier=Digi-Key; ComponentLink2Description: https://datasheet.ciiva.com/136/s0717e-136042.pdf?src-supplier=Digi-Key; ComponentLink3URL: https://datasheet.ciiva.com/136/s0717e-136043.pdf?src-supplier=Digi-Key; ComponentLink3Description: https://datasheet.ciiva.com/136/s0717e-136043.pdf?src-supplier=Digi-Key; Price: 0.0928
footprint CHIP_0603 (Chip Capacitor, 2-Leads, Body 1.60x0.80mm, IPC Medium Density)
pins: 1, 2

## GRM21B5C1H183JA01L
designator C?, comment 18n
CAP CER 18NF 50V C0G/NP0 0805; Manufacturer: Murata; Manufacturer Part Number: GRM21B5C1H183JA01L; Tolerance: 5%; Dielectric: C0G; Supplier 1: Farnell; Supplier Part Number 1: 2494268; Stock: 11139; Pricing: 5=0.383, 50=0.192, 250=0.166, 500=0.105, 1500=0.0907, 3000=0.0767, 15000=0.0737 (EUR); RoHS: Yes; Mount: Surface Mount; Case/Package: 0805; Case Code (Metric): 2012; Case Code (Imperial): 0805; Min Operating Temperature: -55°C; Max Operating Temperature: 125°C; Capacitance: 18nF; Voltage Rating: 50V; Packaging: Tape and Reel; Package Quantity: 1; Voltage Rating (DC): 50V; Termination: SMD/SMT; Voltage: 50V; Length: 2mm; Height: 1.25mm; Width: 0.049inch; Thickness: 0.053inch; Depth: 1.25mm; Radiation Hardening: No; REACH SVHC: No SVHC; Lead Free: Lead Free; ComponentLink1URL: https://datasheet.ciiva.com/16286/product-16286400.pdf?src-supplier=Future+Electronics; ComponentLink1Description: https://datasheet.ciiva.com/16286/product-16286400.pdf?src-supplier=Future+Electronics; ComponentLink2URL: https://datasheet.ciiva.com/3778/3362grm21b5c1h183ja0123-3778101.pdf?src-supplier=Arrow; ComponentLink2Description: https://datasheet.ciiva.com/3778/3362grm21b5c1h183ja0123-3778101.pdf?src-supplier=Arrow; ComponentLink3URL: https://datasheet.ciiva.com/162/product-162211.pdf?src-supplier=Digi-Key; ComponentLink3Description: https://datasheet.ciiva.com/162/product-162211.pdf?src-supplier=Digi-Key; ComponentLink4URL: https://datasheet.ciiva.com/162/product-162212.pdf?src-supplier=Digi-Key; ComponentLink4Description: https://datasheet.ciiva.com/162/product-162212.pdf?src-supplier=Digi-Key; ComponentLink5URL: https://datasheet.ciiva.com/162/product-162213.pdf?src-supplier=Digi-Key; ComponentLink5Description: https://datasheet.ciiva.com/162/product-162213.pdf?src-supplier=Digi-Key; ComponentLink6URL: https://datasheet.ciiva.com/11619/product-11619384.pdf?src-supplier=Avnet; ComponentLink6Description: https://datasheet.ciiva.com/11619/product-11619384.pdf?src-supplier=Avnet; Price: 0.192
footprint CHIP_0805 (Chip Capacitor, 2-Leads, Body 2.00x1.25mm, IPC Medium Density)
pins: 1, 2